# EAGLE library part EPF10K100-PGA503 (library altera)
EPF10K100 FLEX 10K family
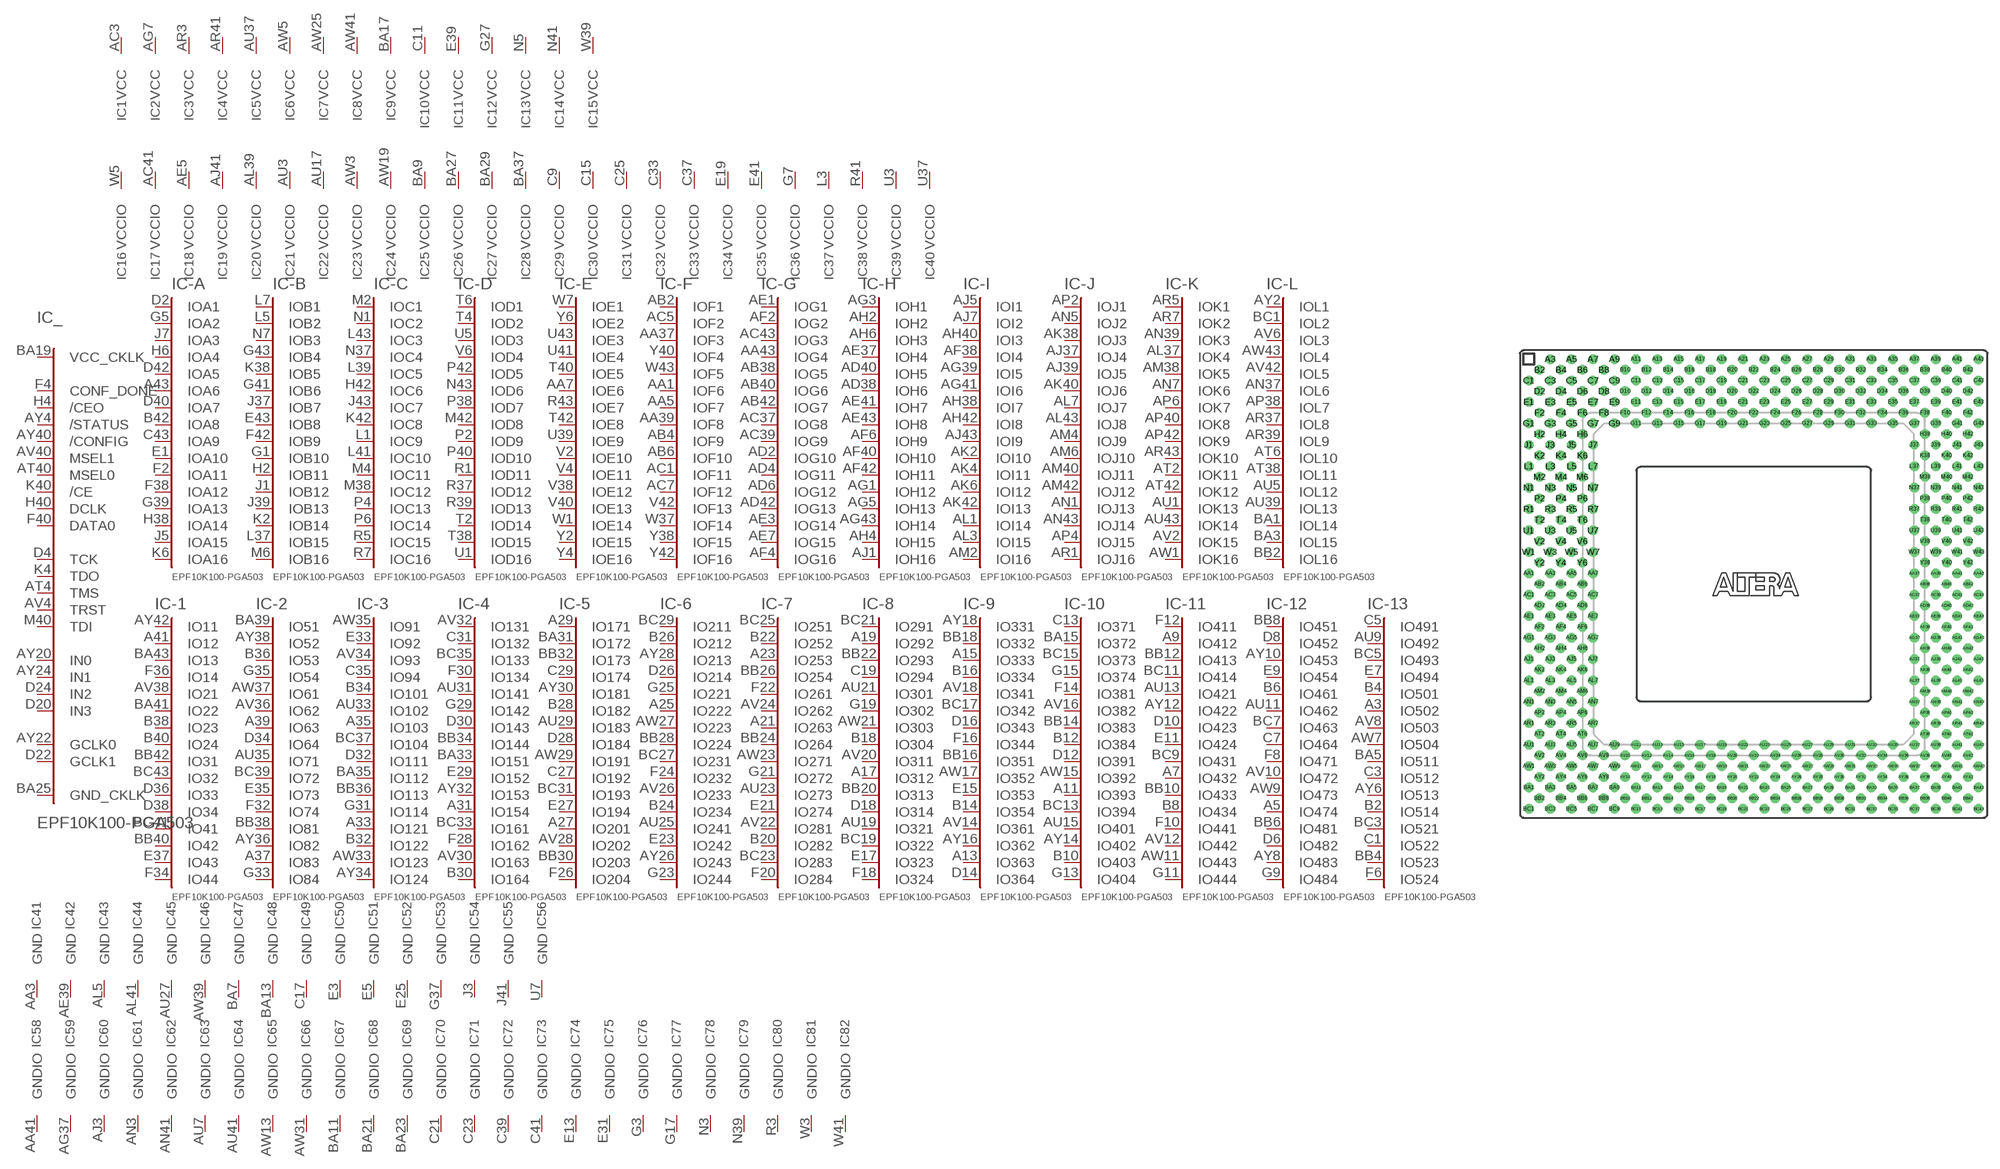
[diagram p59: symbol with the pads of PGA503; footprint PGA503]

Designator prefix IC; gates _=100P503C -A=A16 -B=B16 -C=C16 -D=D16 -E=E16 -F=F16 -G=G16 -H=H16 -I=I16 -J=J16 -K=K16 -L=L16 -1=IO44 -2=IO84 -3=IO124 -4=IO164 -5=IO204 -6=IO244 -7=IO284 -8=IO324 -9=IO364 -10=IO404 -11=IO444 -12=IO484 -13=IO524 1=VCCINT 2=VCCINT 3=VCCINT 4=VCCINT 5=VCCINT 6=VCCINT 7=VCCINT 8=VCCINT 9=VCCINT 10=VCCINT 11=VCCINT 12=VCCINT 13=VCCINT 14=VCCINT 15=VCCINT 16=VCCIO 17=VCCIO 18=VCCIO 19=VCCIO 20=VCCIO 21=VCCIO 22=VCCIO 23=VCCIO 24=VCCIO 25=VCCIO 26=VCCIO 27=VCCIO 28=VCCIO 29=VCCIO 30=VCCIO 31=VCCIO 32=VCCIO 33=VCCIO 34=VCCIO 35=VCCIO 36=VCCIO 37=VCCIO 38=VCCIO 39=VCCIO 40=VCCIO 41=GNDINT 42=GNDINT 43=GNDINT 44=GNDINT 45=GNDINT 46=GNDINT 47=GNDINT 48=GNDINT 49=GNDINT 50=GNDINT 51=GNDINT 52=GNDINT 53=GNDINT 54=GNDINT 55=GNDINT 56=GNDINT 58=GNDIO 59=GNDIO 60=GNDIO 61=GNDIO 62=GNDIO 63=GNDIO 64=GNDIO 65=GNDIO 66=GNDIO 67=GNDIO 68=GNDIO 69=GNDIO 70=GNDIO 71=GNDIO 72=GNDIO 73=GNDIO 74=GNDIO 75=GNDIO 76=GNDIO 77=GNDIO 78=GNDIO 79=GNDIO 80=GNDIO 81=GNDIO 82=GNDIO

## EPF10K100-PGA503 (OC_FARNELL: unknown; OC_NEWARK: unknown)  [PGA503]
A3  -13:IO502
A5  -12:IO474
A7  -11:IO432
A9  -11:IO412
A11  -10:IO393
A13  -9:IO363
A15  -9:IO333
A17  -8:IO312
A19  -8:IO292
A21  -7:IO263
A23  -7:IO253
A25  -6:IO222
A27  -5:IO201
A29  -5:IO171
A31  -4:IO154
A33  -3:IO121
A35  -3:IO103
A37  -2:IO83
A39  -2:IO63
A41  -1:IO12
A43  -A:IOA6
AA1  -F:IOF6
AA3  41:GND  pwr
AA5  -F:IOF7
AA7  -E:IOE6
AA37  -F:IOF3
AA39  -F:IOF8
AA41  58:GNDIO  pwr
AA43  -G:IOG4
AB2  -F:IOF1
AB4  -F:IOF9
AB6  -F:IOF10
AB38  -G:IOG5
AB40  -G:IOG6
AB42  -G:IOG7
AC1  -F:IOF11
AC3  1:VCC  pwr
AC5  -F:IOF2
AC7  -F:IOF12
AC37  -G:IOG8
AC39  -G:IOG9
AC41  17:VCCIO  pwr
AC43  -G:IOG3
AD2  -G:IOG10
AD4  -G:IOG11
AD6  -G:IOG12
AD38  -H:IOH6
AD40  -H:IOH5
AD42  -G:IOG13
AE1  -G:IOG1
AE3  -G:IOG14
AE5  18:VCCIO  pwr
AE7  -G:IOG15
AE37  -H:IOH4
AE39  42:GND  pwr
AE41  -H:IOH7
AE43  -H:IOH8
AF2  -G:IOG2
AF4  -G:IOG16
AF6  -H:IOH9
AF38  -I:IOI4
AF40  -H:IOH10
AF42  -H:IOH11
AG1  -H:IOH12
AG3  -H:IOH1
AG5  -H:IOH13
AG7  2:VCC  pwr
AG37  59:GNDIO  pwr
AG39  -I:IOI5
AG41  -I:IOI6
AG43  -H:IOH14
AH2  -H:IOH2
AH4  -H:IOH15
AH6  -H:IOH3
AH38  -I:IOI7
AH40  -I:IOI3
AH42  -I:IOI8
AJ1  -H:IOH16
AJ3  60:GNDIO  pwr
AJ5  -I:IOI1
AJ7  -I:IOI2
AJ37  -J:IOJ4
AJ39  -J:IOJ5
AJ41  19:VCCIO  pwr
AJ43  -I:IOI9
AK2  -I:IOI10
AK4  -I:IOI11
AK6  -I:IOI12
AK38  -J:IOJ3
AK40  -J:IOJ6
AK42  -I:IOI13
AL1  -I:IOI14
AL3  -I:IOI15
AL5  43:GND  pwr
AL7  -J:IOJ7
AL37  -K:IOK4
AL39  20:VCCIO  pwr
AL41  44:GND  pwr
AL43  -J:IOJ8
AM2  -I:IOI16
AM4  -J:IOJ9
AM6  -J:IOJ10
AM38  -K:IOK5
AM40  -J:IOJ11
AM42  -J:IOJ12
AN1  -J:IOJ13
AN3  61:GNDIO  pwr
AN5  -J:IOJ2
AN7  -K:IOK6
AN37  -L:IOL6
AN39  -K:IOK3
AN41  62:GNDIO  pwr
AN43  -J:IOJ14
AP2  -J:IOJ1
AP4  -J:IOJ15
AP6  -K:IOK7
AP38  -L:IOL7
AP40  -K:IOK8
AP42  -K:IOK9
AR1  -J:IOJ16
AR3  3:VCC  pwr
AR5  -K:IOK1
AR7  -K:IOK2
AR37  -L:IOL8
AR39  -L:IOL9
AR41  4:VCC  pwr
AR43  -K:IOK10
AT2  -K:IOK11
AT4  _:TMS
AT6  -L:IOL10
AT38  -L:IOL11
AT40  _:MSEL0  in
AT42  -K:IOK12
AU1  -K:IOK13
AU3  21:VCCIO  pwr
AU5  -L:IOL12
AU7  63:GNDIO  pwr
AU9  -13:IO492
AU11  -12:IO462
AU13  -11:IO421
AU15  -10:IO401
AU17  22:VCCIO  pwr
AU19  -8:IO321
AU21  -8:IO301
AU23  -7:IO273
AU25  -6:IO241
AU27  45:GND  pwr
AU29  -5:IO183
AU31  -4:IO141
AU33  -3:IO102
AU35  -2:IO71
AU37  5:VCC  pwr
AU39  -L:IOL13
AU41  64:GNDIO  pwr
AU43  -K:IOK14
AV2  -K:IOK15
AV4  _:TRST
AV6  -L:IOL3
AV8  -13:IO503
AV10  -12:IO472
AV12  -11:IO442
AV14  -9:IO361
AV16  -10:IO382
AV18  -9:IO341
AV20  -8:IO311
AV22  -7:IO281
AV24  -7:IO262
AV26  -6:IO233
AV28  -5:IO202
AV30  -4:IO163
AV32  -4:IO131
AV34  -3:IO93
AV36  -2:IO62
AV38  -1:IO21
AV40  _:MSEL1  in
AV42  -L:IOL5
AW1  -K:IOK16
AW3  23:VCCIO  pwr
AW5  6:VCC  pwr
AW7  -13:IO504
AW9  -12:IO473
AW11  -11:IO443
AW13  65:GNDIO  pwr
AW15  -10:IO392
AW17  -9:IO352
AW19  24:VCCIO  pwr
AW21  -8:IO303
AW23  -7:IO271
AW25  7:VCC  pwr
AW27  -6:IO223
AW29  -5:IO191
AW31  66:GNDIO  pwr
AW33  -3:IO123
AW35  -3:IO91
AW37  -2:IO61
AW39  46:GND  pwr
AW41  8:VCC  pwr
AW43  -L:IOL4
AY2  -L:IOL1
AY4  _:/STATUS  in
AY6  -13:IO513
AY8  -12:IO483
AY10  -12:IO453
AY12  -11:IO422
AY14  -10:IO402
AY16  -9:IO362
AY18  -9:IO331
AY20  _:IN0  in
AY22  _:GCLK0  in
AY24  _:IN1  in
AY26  -6:IO243
AY28  -6:IO213
AY30  -5:IO181
AY32  -4:IO153
AY34  -3:IO124
AY36  -2:IO82
AY38  -2:IO52
AY40  _:/CONFIG  in
AY42  -1:IO11
B2  -13:IO514
B4  -13:IO501
B6  -12:IO461
B8  -11:IO434
B10  -10:IO403
B12  -10:IO384
B14  -9:IO354
B16  -9:IO334
B18  -8:IO304
B20  -7:IO282
B22  -7:IO252
B24  -6:IO234
B26  -6:IO212
B28  -5:IO182
B30  -4:IO164
B32  -3:IO122
B34  -3:IO101
B36  -2:IO53
B38  -1:IO23
B40  -1:IO24
B42  -A:IOA8
BA1  -L:IOL14
BA3  -L:IOL15
BA5  -13:IO511
BA7  47:GND  pwr
BA9  25:VCCIO  pwr
BA11  67:GNDIO  pwr
BA13  48:GND  pwr
BA15  -10:IO372
BA17  9:VCC  pwr
BA19  _:VCC_CKLK  pas
BA21  68:GNDIO  pwr
BA23  69:GNDIO  pwr
BA25  _:GND_CKLK  pas
BA27  26:VCCIO  pwr
BA29  27:VCCIO  pwr
BA31  -5:IO172
BA33  -4:IO151
BA35  -3:IO112
BA37  28:VCCIO  pwr
BA39  -2:IO51
BA41  -1:IO22
BA43  -1:IO13
BB2  -L:IOL16
BB4  -13:IO523
BB6  -12:IO481
BB8  -12:IO451
BB10  -11:IO433
BB12  -11:IO413
BB14  -10:IO383
BB16  -9:IO351
BB18  -9:IO332
BB20  -8:IO313
BB22  -8:IO293
BB24  -7:IO264
BB26  -7:IO254
BB28  -6:IO224
BB30  -5:IO203
BB32  -5:IO173
BB34  -4:IO144
BB36  -3:IO113
BB38  -2:IO81
BB40  -1:IO42
BB42  -1:IO31
BC1  -L:IOL2
BC3  -13:IO521
BC5  -13:IO493
BC7  -12:IO463
BC9  -11:IO431
BC11  -11:IO414
BC13  -10:IO394
BC15  -10:IO373
BC17  -9:IO342
BC19  -8:IO322
BC21  -8:IO291
BC23  -7:IO283
BC25  -7:IO251
BC27  -6:IO231
BC29  -6:IO211
BC31  -5:IO193
BC33  -4:IO161
BC35  -4:IO133
BC37  -3:IO104
BC39  -2:IO72
BC41  -1:IO41
BC43  -1:IO32
C1  -13:IO522
C3  -13:IO512
C5  -13:IO491
C7  -12:IO464
C9  29:VCCIO  pwr
C11  10:VCC  pwr
C13  -10:IO371
C15  30:VCCIO  pwr
C17  49:GND  pwr
C19  -8:IO294
C21  70:GNDIO  pwr
C23  71:GNDIO  pwr
C25  31:VCCIO  pwr
C27  -5:IO192
C29  -5:IO174
C31  -4:IO132
C33  32:VCCIO  pwr
C35  -3:IO94
C37  33:VCCIO  pwr
C39  72:GNDIO  pwr
C41  73:GNDIO  pwr
C43  -A:IOA9
D2  -A:IOA1
D4  _:TCK
D6  -12:IO482
D8  -12:IO452
D10  -11:IO423
D12  -10:IO391
D14  -9:IO364
D16  -9:IO343
D18  -8:IO314
D20  _:IN3  in
D22  _:GCLK1  in
D24  _:IN2  in
D26  -6:IO214
D28  -5:IO184
D30  -4:IO143
D32  -3:IO111
D34  -2:IO64
D36  -1:IO33
D38  -1:IO34
D40  -A:IOA7
D42  -A:IOA5
E1  -A:IOA10
E3  50:GND  pwr
E5  51:GND  pwr
E7  -13:IO494
E9  -12:IO454
E11  -11:IO424
E13  74:GNDIO  pwr
E15  -9:IO353
E17  -8:IO323
E19  34:VCCIO  pwr
E21  -7:IO274
E23  -6:IO242
E25  52:GND  pwr
E27  -5:IO194
E29  -4:IO152
E31  75:GNDIO  pwr
E33  -3:IO92
E35  -2:IO73
E37  -1:IO43
E39  11:VCC  pwr
E41  35:VCCIO  pwr
E43  -B:IOB8
F2  -A:IOA11
F4  _:CONF_DONE  in
F6  -13:IO524
F8  -12:IO471
F10  -11:IO441
F12  -11:IO411
F14  -10:IO381
F16  -9:IO344
F18  -8:IO324
F20  -7:IO284
F22  -7:IO261
F24  -6:IO232
F26  -5:IO204
F28  -4:IO162
F30  -4:IO134
F32  -2:IO74
F34  -1:IO44
F36  -1:IO14
F38  -A:IOA12
F40  _:DATA0  in
F42  -B:IOB9
G1  -B:IOB10
G3  76:GNDIO  pwr
G5  -A:IOA2
G7  36:VCCIO  pwr
G9  -12:IO484
G11  -11:IO444
G13  -10:IO404
G15  -10:IO374
G17  77:GNDIO  pwr
G19  -8:IO302
G21  -7:IO272
G23  -6:IO244
G25  -6:IO221
G27  12:VCC  pwr
G29  -4:IO142
G31  -3:IO114
G33  -2:IO84
G35  -2:IO54
G37  53:GND  pwr
G39  -A:IOA13
G41  -B:IOB6
G43  -B:IOB4
H2  -B:IOB11
H4  _:/CEO  in
H6  -A:IOA4
H38  -A:IOA14
H40  _:DCLK  in
H42  -C:IOC6
J1  -B:IOB12
J3  54:GND  pwr
J5  -A:IOA15
J7  -A:IOA3
J37  -B:IOB7
J39  -B:IOB13
J41  55:GND  pwr
J43  -C:IOC7
K2  -B:IOB14
K4  _:TDO
K6  -A:IOA16
K38  -B:IOB5
K40  _:/CE  in
K42  -C:IOC8
L1  -C:IOC9
L3  37:VCCIO  pwr
L5  -B:IOB2
L7  -B:IOB1
L37  -B:IOB15
L39  -C:IOC5
L41  -C:IOC10
L43  -C:IOC3
M2  -C:IOC1
M4  -C:IOC11
M6  -B:IOB16
M38  -C:IOC12
M40  _:TDI
M42  -D:IOD8
N1  -C:IOC2
N3  78:GNDIO  pwr
N5  13:VCC  pwr
N7  -B:IOB3
N37  -C:IOC4
N39  79:GNDIO  pwr
N41  14:VCC  pwr
N43  -D:IOD6
P2  -D:IOD9
P4  -C:IOC13
P6  -C:IOC14
P38  -D:IOD7
P40  -D:IOD10
P42  -D:IOD5
R1  -D:IOD11
R3  80:GNDIO  pwr
R5  -C:IOC15
R7  -C:IOC16
R37  -D:IOD12
R39  -D:IOD13
R41  38:VCCIO  pwr
R43  -E:IOE7
T2  -D:IOD14
T4  -D:IOD2
T6  -D:IOD1
T38  -D:IOD15
T40  -E:IOE5
T42  -E:IOE8
U1  -D:IOD16
U3  39:VCCIO  pwr
U5  -D:IOD3
U7  56:GND  pwr
U37  40:VCCIO  pwr
U39  -E:IOE9
U41  -E:IOE4
U43  -E:IOE3
V2  -E:IOE10
V4  -E:IOE11
V6  -D:IOD4
V38  -E:IOE12
V40  -E:IOE13
V42  -F:IOF13
W1  -E:IOE14
W3  81:GNDIO  pwr
W5  16:VCCIO  pwr
W7  -E:IOE1
W37  -F:IOF14
W39  15:VCC  pwr
W41  82:GNDIO  pwr
W43  -F:IOF5
Y2  -E:IOE15
Y4  -E:IOE16
Y6  -E:IOE2
Y38  -F:IOF15
Y40  -F:IOF4
Y42  -F:IOF16

## Footprint PGA503 (pad centres in mm)
Pin Grid Array
drill 0.61 pad 1.016: A3 -24.13,26.67; A5 -21.59,26.67; A7 -19.05,26.67; A9 -16.51,26.67; A11 -13.97,26.67; A13 -11.43,26.67; A15 -8.89,26.67; A17 -6.35,26.67; A19 -3.81,26.67; A21 -1.27,26.67; A23 1.27,26.67; A25 3.81,26.67; A27 6.35,26.67; A29 8.89,26.67; A31 11.43,26.67; A33 13.97,26.67; A35 16.51,26.67; A37 19.05,26.67; A39 21.59,26.67; A41 24.13,26.67; A43 26.67,26.67; AA1 -26.67,1.27; AA3 -24.13,1.27; AA5 -21.59,1.27; AA7 -19.05,1.27; AA37 19.05,1.27; AA39 21.59,1.27; AA41 24.13,1.27; AA43 26.67,1.27; AB2 -25.4,0; AB4 -22.86,0; AB6 -20.32,0; AB38 20.32,0; AB40 22.86,0; AB42 25.4,0; AC1 -26.67,-1.27; AC3 -24.13,-1.27; AC5 -21.59,-1.27; AC7 -19.05,-1.27; AC37 19.05,-1.27; AC39 21.59,-1.27; AC41 24.13,-1.27; AC43 26.67,-1.27; AD2 -25.4,-2.54; AD4 -22.86,-2.54; AD6 -20.32,-2.54; AD38 20.32,-2.54; AD40 22.86,-2.54; AD42 25.4,-2.54; AE1 -26.67,-3.81; AE3 -24.13,-3.81; AE5 -21.59,-3.81; AE7 -19.05,-3.81; AE37 19.05,-3.81; AE39 21.59,-3.81; AE41 24.13,-3.81; AE43 26.67,-3.81; AF2 -25.4,-5.08; AF4 -22.86,-5.08; AF6 -20.32,-5.08; AF38 20.32,-5.08; AF40 22.86,-5.08; AF42 25.4,-5.08; AG1 -26.67,-6.35; AG3 -24.13,-6.35; AG5 -21.59,-6.35; AG7 -19.05,-6.35; AG37 19.05,-6.35; AG39 21.59,-6.35; AG41 24.13,-6.35; AG43 26.67,-6.35; AH2 -25.4,-7.62; AH4 -22.86,-7.62; AH6 -20.32,-7.62; AH38 20.32,-7.62; AH40 22.86,-7.62; AH42 25.4,-7.62; AJ1 -26.67,-8.89; AJ3 -24.13,-8.89; AJ5 -21.59,-8.89; AJ7 -19.05,-8.89; AJ37 19.05,-8.89; AJ39 21.59,-8.89; AJ41 24.13,-8.89; AJ43 26.67,-8.89; AK2 -25.4,-10.16; AK4 -22.86,-10.16; AK6 -20.32,-10.16; AK38 20.32,-10.16; AK40 22.86,-10.16; AK42 25.4,-10.16; AL1 -26.67,-11.43; AL3 -24.13,-11.43; AL5 -21.59,-11.43; AL7 -19.05,-11.43; AL37 19.05,-11.43; AL39 21.59,-11.43; AL41 24.13,-11.43; AL43 26.67,-11.43; AM2 -25.4,-12.7; AM4 -22.86,-12.7; AM6 -20.32,-12.7; AM38 20.32,-12.7; AM40 22.86,-12.7; AM42 25.4,-12.7; AN1 -26.67,-13.97; AN3 -24.13,-13.97; AN5 -21.59,-13.97; AN7 -19.05,-13.97; AN37 19.05,-13.97; AN39 21.59,-13.97; AN41 24.13,-13.97; AN43 26.67,-13.97; AP2 -25.4,-15.24; AP4 -22.86,-15.24; AP6 -20.32,-15.24; AP38 20.32,-15.24; AP40 22.86,-15.24; AP42 25.4,-15.24; AR1 -26.67,-16.51; AR3 -24.13,-16.51; AR5 -21.59,-16.51; AR7 -19.05,-16.51; AR37 19.05,-16.51; AR39 21.59,-16.51; AR41 24.13,-16.51; AR43 26.67,-16.51; AT2 -25.4,-17.78; AT4 -22.86,-17.78; AT6 -20.32,-17.78; AT38 20.32,-17.78; AT40 22.86,-17.78; AT42 25.4,-17.78; AU1 -26.67,-19.05; AU3 -24.13,-19.05; AU5 -21.59,-19.05; AU7 -19.05,-19.05; AU9 -16.51,-19.05; AU11 -13.97,-19.05; AU13 -11.43,-19.05; AU15 -8.89,-19.05; AU17 -6.35,-19.05; AU19 -3.81,-19.05; AU21 -1.27,-19.05; AU23 1.27,-19.05; AU25 3.81,-19.05; AU27 6.35,-19.05; AU29 8.89,-19.05; AU31 11.43,-19.05; AU33 13.97,-19.05; AU35 16.51,-19.05; AU37 19.05,-19.05; AU39 21.59,-19.05; AU41 24.13,-19.05; AU43 26.67,-19.05; AV2 -25.4,-20.32; AV4 -22.86,-20.32; AV6 -20.32,-20.32; AV8 -17.78,-20.32; AV10 -15.24,-20.32; AV12 -12.7,-20.32; AV14 -10.16,-20.32; AV16 -7.62,-20.32; AV18 -5.08,-20.32; AV20 -2.54,-20.32; AV22 0,-20.32; AV24 2.54,-20.32; AV26 5.08,-20.32; AV28 7.62,-20.32; AV30 10.16,-20.32; AV32 12.7,-20.32; AV34 15.24,-20.32; AV36 17.78,-20.32; AV38 20.32,-20.32; AV40 22.86,-20.32; AV42 25.4,-20.32; AW1 -26.67,-21.59; AW3 -24.13,-21.59; AW5 -21.59,-21.59; AW7 -19.05,-21.59; AW9 -16.51,-21.59; AW11 -13.97,-21.59; AW13 -11.43,-21.59; AW15 -8.89,-21.59; AW17 -6.35,-21.59; AW19 -3.81,-21.59; AW21 -1.27,-21.59; AW23 1.27,-21.59; AW25 3.81,-21.59; AW27 6.35,-21.59; AW29 8.89,-21.59; AW31 11.43,-21.59; AW33 13.97,-21.59; AW35 16.51,-21.59; AW37 19.05,-21.59; AW39 21.59,-21.59; AW41 24.13,-21.59; AW43 26.67,-21.59; AY2 -25.4,-22.86; AY4 -22.86,-22.86; AY6 -20.32,-22.86; AY8 -17.78,-22.86; AY10 -15.24,-22.86; AY12 -12.7,-22.86; AY14 -10.16,-22.86; AY16 -7.62,-22.86; AY18 -5.08,-22.86; AY20 -2.54,-22.86; AY22 0,-22.86; AY24 2.54,-22.86; AY26 5.08,-22.86; AY28 7.62,-22.86; AY30 10.16,-22.86; AY32 12.7,-22.86; AY34 15.24,-22.86; AY36 17.78,-22.86; AY38 20.32,-22.86; AY40 22.86,-22.86; AY42 25.4,-22.86; B2 -25.4,25.4; B4 -22.86,25.4; B6 -20.32,25.4; B8 -17.78,25.4; B10 -15.24,25.4; B12 -12.7,25.4; B14 -10.16,25.4; B16 -7.62,25.4; B18 -5.08,25.4; B20 -2.54,25.4; B22 0,25.4; B24 2.54,25.4; B26 5.08,25.4; B28 7.62,25.4; B30 10.16,25.4; B32 12.7,25.4; B34 15.24,25.4; B36 17.78,25.4; B38 20.32,25.4; B40 22.86,25.4; B42 25.4,25.4; BA1 -26.67,-24.13; BA3 -24.13,-24.13; BA5 -21.59,-24.13; BA7 -19.05,-24.13; BA9 -16.51,-24.13; BA11 -13.97,-24.13; BA13 -11.43,-24.13; BA15 -8.89,-24.13; BA17 -6.35,-24.13; BA19 -3.81,-24.13; BA21 -1.27,-24.13; BA23 1.27,-24.13; BA25 3.81,-24.13; BA27 6.35,-24.13; BA29 8.89,-24.13; BA31 11.43,-24.13; BA33 13.97,-24.13; BA35 16.51,-24.13; BA37 19.05,-24.13; BA39 21.59,-24.13; BA41 24.13,-24.13; BA43 26.67,-24.13; BB2 -25.4,-25.4; BB4 -22.86,-25.4; BB6 -20.32,-25.4; BB8 -17.78,-25.4; BB10 -15.24,-25.4; BB12 -12.7,-25.4; BB14 -10.16,-25.4; BB16 -7.62,-25.4; BB18 -5.08,-25.4; BB20 -2.54,-25.4; BB22 0,-25.4; BB24 2.54,-25.4; BB26 5.08,-25.4; BB28 7.62,-25.4; BB30 10.16,-25.4; BB32 12.7,-25.4; BB34 15.24,-25.4; BB36 17.78,-25.4; BB38 20.32,-25.4; BB40 22.86,-25.4; BB42 25.4,-25.4; BC1 -26.67,-26.67; BC3 -24.13,-26.67; BC5 -21.59,-26.67; BC7 -19.05,-26.67; BC9 -16.51,-26.67; BC11 -13.97,-26.67; BC13 -11.43,-26.67; BC15 -8.89,-26.67; BC17 -6.35,-26.67; BC19 -3.81,-26.67; BC21 -1.27,-26.67; BC23 1.27,-26.67; BC25 3.81,-26.67; BC27 6.35,-26.67; BC29 8.89,-26.67; BC31 11.43,-26.67; BC33 13.97,-26.67; BC35 16.51,-26.67; BC37 19.05,-26.67; BC39 21.59,-26.67; BC41 24.13,-26.67; BC43 26.67,-26.67; C1 -26.67,24.13; C3 -24.13,24.13; C5 -21.59,24.13; C7 -19.05,24.13; C9 -16.51,24.13; C11 -13.97,24.13; C13 -11.43,24.13; C15 -8.89,24.13; C17 -6.35,24.13; C19 -3.81,24.13; C21 -1.27,24.13; C23 1.27,24.13; C25 3.81,24.13; C27 6.35,24.13; C29 8.89,24.13; C31 11.43,24.13; C33 13.97,24.13; C35 16.51,24.13; C37 19.05,24.13; C39 21.59,24.13; C41 24.13,24.13; C43 26.67,24.13; D2 -25.4,22.86; D4 -22.86,22.86; D6 -20.32,22.86; D8 -17.78,22.86; D10 -15.24,22.86; D12 -12.7,22.86; D14 -10.16,22.86; D16 -7.62,22.86; D18 -5.08,22.86; D20 -2.54,22.86; D22 0,22.86; D24 2.54,22.86; D26 5.08,22.86; D28 7.62,22.86; D30 10.16,22.86; D32 12.7,22.86; D34 15.24,22.86; D36 17.78,22.86; D38 20.32,22.86; D40 22.86,22.86; D42 25.4,22.86; E1 -26.67,21.59; E3 -24.13,21.59; E5 -21.59,21.59; E7 -19.05,21.59; E9 -16.51,21.59; E11 -13.97,21.59; E13 -11.43,21.59; E15 -8.89,21.59; E17 -6.35,21.59; E19 -3.81,21.59; E21 -1.27,21.59; E23 1.27,21.59; E25 3.81,21.59; E27 6.35,21.59; E29 8.89,21.59; E31 11.43,21.59; E33 13.97,21.59; E35 16.51,21.59; E37 19.05,21.59; E39 21.59,21.59; E41 24.13,21.59; E43 26.67,21.59; F2 -25.4,20.32; F4 -22.86,20.32; F6 -20.32,20.32; F8 -17.78,20.32; F10 -15.24,20.32; F12 -12.7,20.32; F14 -10.16,20.32; F16 -7.62,20.32; F18 -5.08,20.32; F20 -2.54,20.32; F22 0,20.32; F24 2.54,20.32; F26 5.08,20.32; F28 7.62,20.32; F30 10.16,20.32; F32 12.7,20.32; F34 15.24,20.32; F36 17.78,20.32; F38 20.32,20.32; F40 22.86,20.32; F42 25.4,20.32; G1 -26.67,19.05; G3 -24.13,19.05; G5 -21.59,19.05; G7 -19.05,19.05; G9 -16.51,19.05; G11 -13.97,19.05; G13 -11.43,19.05; G15 -8.89,19.05; G17 -6.35,19.05; G19 -3.81,19.05; G21 -1.27,19.05; G23 1.27,19.05; G25 3.81,19.05; G27 6.35,19.05; G29 8.89,19.05; G31 11.43,19.05; G33 13.97,19.05; G35 16.51,19.05; G37 19.05,19.05; G39 21.59,19.05; G41 24.13,19.05; G43 26.67,19.05; H2 -25.4,17.78; H4 -22.86,17.78; H6 -20.32,17.78; H38 20.32,17.78; H40 22.86,17.78; H42 25.4,17.78; J1 -26.67,16.51; J3 -24.13,16.51; J5 -21.59,16.51; J7 -19.05,16.51; J37 19.05,16.51; J39 21.59,16.51; J41 24.13,16.51; J43 26.67,16.51; K2 -25.4,15.24; K4 -22.86,15.24; K6 -20.32,15.24; K38 20.32,15.24; K40 22.86,15.24; K42 25.4,15.24; L1 -26.67,13.97; L3 -24.13,13.97; L5 -21.59,13.97; L7 -19.05,13.97; L37 19.05,13.97; L39 21.59,13.97; L41 24.13,13.97; L43 26.67,13.97; M2 -25.4,12.7; M4 -22.86,12.7; M6 -20.32,12.7; M38 20.32,12.7; M40 22.86,12.7; M42 25.4,12.7; N1 -26.67,11.43; N3 -24.13,11.43; N5 -21.59,11.43; N7 -19.05,11.43; N37 19.05,11.43; N39 21.59,11.43; N41 24.13,11.43; N43 26.67,11.43; P2 -25.4,10.16; P4 -22.86,10.16; P6 -20.32,10.16; P38 20.32,10.16; P40 22.86,10.16; P42 25.4,10.16; R1 -26.67,8.89; R3 -24.13,8.89; R5 -21.59,8.89; R7 -19.05,8.89; R37 19.05,8.89; R39 21.59,8.89; R41 24.13,8.89; R43 26.67,8.89; T2 -25.4,7.62; T4 -22.86,7.62; T6 -20.32,7.62; T38 20.32,7.62; T40 22.86,7.62; T42 25.4,7.62; U1 -26.67,6.35; U3 -24.13,6.35; U5 -21.59,6.35; U7 -19.05,6.35; U37 19.05,6.35; U39 21.59,6.35; U41 24.13,6.35; U43 26.67,6.35; V2 -25.4,5.08; V4 -22.86,5.08; V6 -20.32,5.08; V38 20.32,5.08; V40 22.86,5.08; V42 25.4,5.08; W1 -26.67,3.81; W3 -24.13,3.81; W5 -21.59,3.81; W7 -19.05,3.81; W37 19.05,3.81; W39 21.59,3.81; W41 24.13,3.81; W43 26.67,3.81; Y2 -25.4,2.54; Y4 -22.86,2.54; Y6 -20.32,2.54; Y38 20.32,2.54; Y40 22.86,2.54; Y42 25.4,2.54